# Altium schematic symbol library LMC7211AIM5X.Schlib: 1 symbol
Pins are listed as number, name and electrical type; pins without a type are passive.

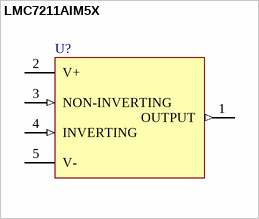
[diagram p0: symbol LMC7211AIM5X]

## LMC7211AIM5X
designator U?
Tiny CMOS Comparator with Rail-to-Rail Input and Push-Pull Output
pins: 1 OUTPUT (out), 2 V+ (power), 3 NON-INVERTING (in), 4 INVERTING (in), 5 V- (power)